# EAGLE library part NAU7802 (library NAU7802)
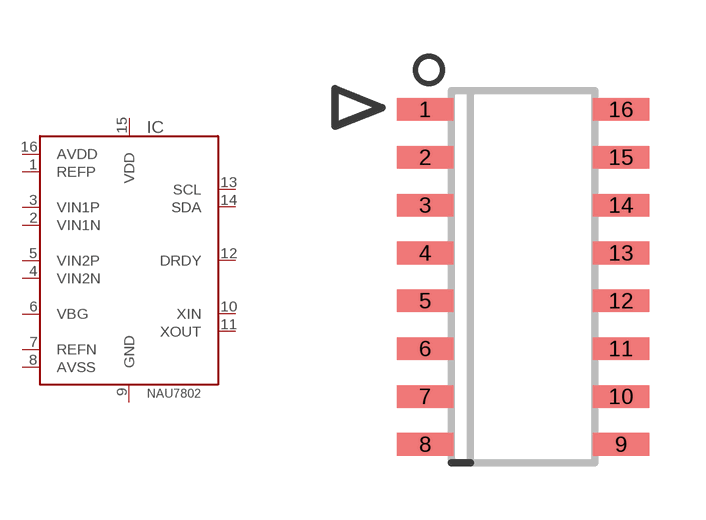
[diagram p0: symbol with the pads of SOIC16N; footprint SOIC16N]

Designator prefix IC

## NAU7802-SGI (MF: Nuvoton; MPN: NAU7802-SGI)  [SOIC16N]
1  REFP  in
2  VIN1N  in
3  VIN1P  in
4  VIN2N  in
5  VIN2P  in
6  VBG
7  REFN  in
8  AVSS  in
9  GND  pwr
10  XIN  in
11  XOUT  out
12  DRDY  out
13  SCL  oc
14  SDA  oc
15  VDD  pwr
16  AVDD

## Footprint SOIC16N (pad centres in mm)
SMALL OUTLINE INTEGRATED CIRCUIT
smd 1.5 x 0.6: 1 -2.6,4.445; 2 -2.6,3.175; 3 -2.6,1.905; 4 -2.6,0.635; 5 -2.6,-0.635; 6 -2.6,-1.905; 7 -2.6,-3.175; 8 -2.6,-4.445; 9 2.6,-4.445; 10 2.6,-3.175; 11 2.6,-1.905; 12 2.6,-0.635; 13 2.6,0.635; 14 2.6,1.905; 15 2.6,3.175; 16 2.6,4.445